# EAGLE library part 18F26K80 (library custom)
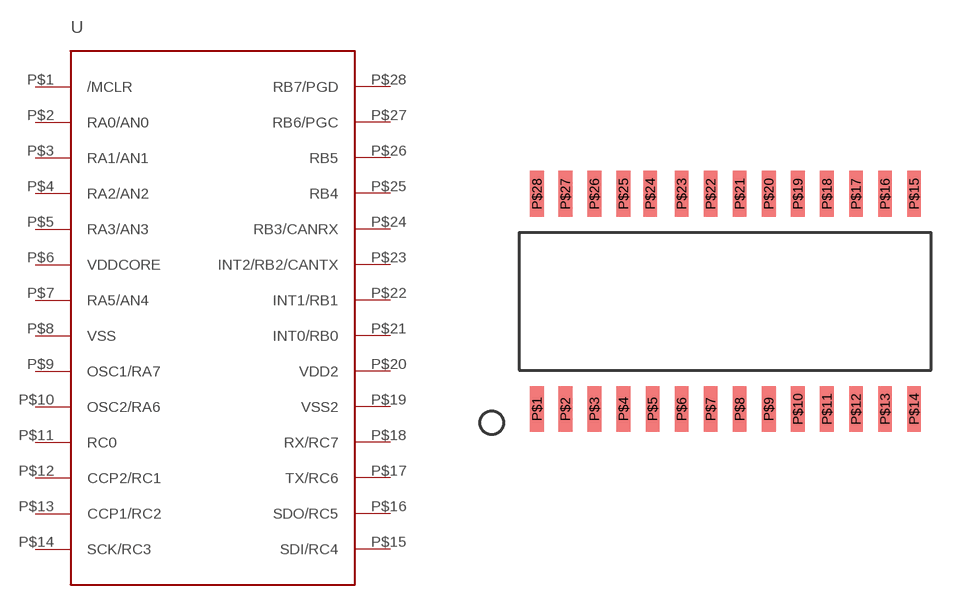
[diagram p29: symbol with the pads of SO28W; footprint SO28W]

Designator prefix -

## 18F26K80  [SO28W]
P$1  /MCLR
P$2  RA0/AN0
P$3  RA1/AN1
P$4  RA2/AN2
P$5  RA3/AN3
P$6  VDDCORE
P$7  RA5/AN4
P$8  VSS
P$9  OSC1/RA7
P$10  OSC2/RA6
P$11  RC0
P$12  CCP2/RC1
P$13  CCP1/RC2
P$14  SCK/RC3
P$15  SDI/RC4
P$16  SDO/RC5
P$17  TX/RC6
P$18  RX/RC7
P$19  VSS2
P$20  VDD2
P$21  INT0/RB0
P$22  INT1/RB1
P$23  INT2/RB2/CANTX
P$24  RB3/CANRX
P$25  RB4
P$26  RB5
P$27  RB6/PGC
P$28  RB7/PGD

## Footprint SO28W (pad centres in mm)
smd 0.6 x 2: P$1 -8.225,-4.7; P$2 -6.985,-4.7; P$3 -5.715,-4.7; P$4 -4.445,-4.7; P$5 -3.175,-4.7; P$6 -1.905,-4.7; P$7 -0.635,-4.7; P$8 0.635,-4.7; P$9 1.905,-4.7; P$10 3.175,-4.7; P$11 4.445,-4.7; P$12 5.715,-4.7; P$13 6.985,-4.7; P$14 8.255,-4.7; P$15 8.255,4.7; P$16 6.985,4.7; P$17 5.715,4.7; P$18 4.445,4.7; P$19 3.175,4.7; P$20 1.905,4.7; P$21 0.635,4.7; P$22 -0.635,4.7; P$23 -1.905,4.7; P$24 -3.275,4.7; P$25 -4.445,4.7; P$26 -5.715,4.7; P$27 -6.985,4.7; P$28 -8.225,4.7